# EAGLE library part M5-BGA256 (library amd-mach)
AMD MACH SERIES
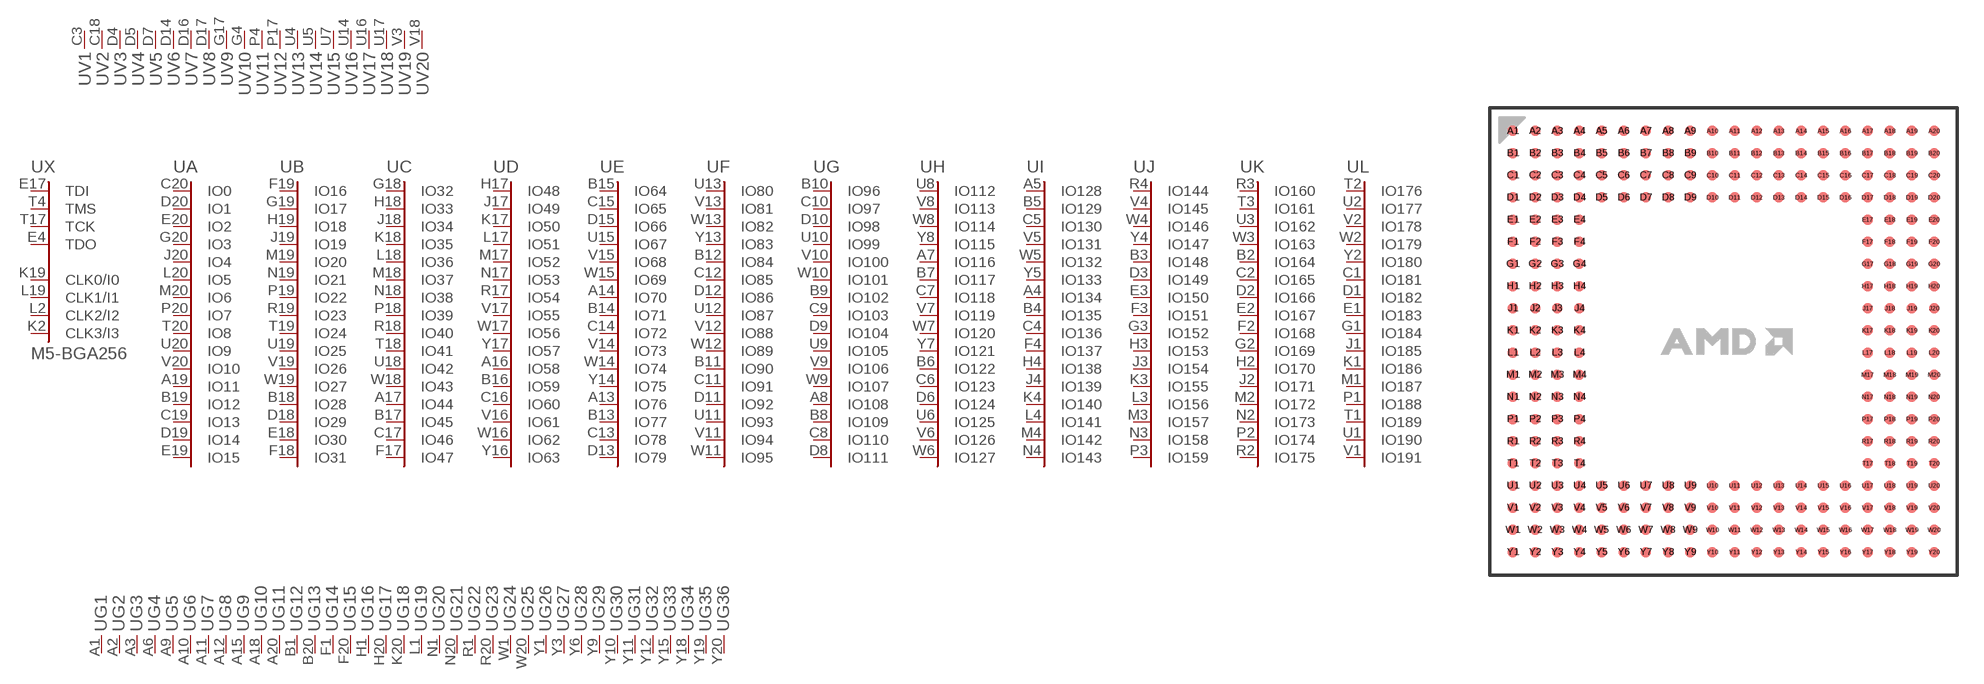
[diagram p17: symbol with the pads of BGA256S; footprint BGA256S]

Designator prefix U; gates X=M5-CTRL A=IO15 B=IO31 C=IO47 D=IO63 E=IO79 F=IO95 G=IO111 H=IO127 I=IO143 J=IO159 G1=GND G2=GND G3=GND G4=GND G5=GND G6=GND G7=GND G8=GND G9=GND G10=GND G11=GND G12=GND G13=GND G14=GND G15=GND G16=GND G17=GND G18=GND G19=GND G20=GND G21=GND G22=GND G23=GND G24=GND G25=GND G26=GND V1=VCC V2=VCC V3=VCC V4=VCC V5=VCC V6=VCC V7=VCC V8=VCC V9=VCC V10=VCC V11=VCC V12=VCC V13=VCC V14=VCC K=IO175 L=IO191 V15=VCC V16=VCC V17=VCC V18=VCC V19=VCC V20=VCC G27=GND G28=GND G29=GND G30=GND G31=GND G32=GND G33=GND G34=GND G35=GND G36=GND

## M5-BGA256  [BGA256S]
A1  G1:GND  pwr
A2  G2:GND  pwr
A3  G3:GND  pwr
A4  I:IO134
A5  I:IO128
A6  G4:GND  pwr
A7  H:IO116
A8  G:IO108
A9  G5:GND  pwr
A10  G6:GND  pwr
A11  G7:GND  pwr
A12  G8:GND  pwr
A13  E:IO76
A14  E:IO70
A15  G9:GND  pwr
A16  D:IO58
A17  C:IO44
A18  G10:GND  pwr
A19  A:IO11
A20  G11:GND  pwr
B1  G12:GND  pwr
B2  K:IO164
B3  J:IO148
B4  I:IO135
B5  I:IO129
B6  H:IO122
B7  H:IO117
B8  G:IO109
B9  G:IO102
B10  G:IO96
B11  F:IO90
B12  F:IO84
B13  E:IO77
B14  E:IO71
B15  E:IO64
B16  D:IO59
B17  C:IO45
B18  B:IO28
B19  A:IO12
B20  G13:GND  pwr
C1  L:IO181
C2  K:IO165
C3  V1:VCC  pwr
C4  I:IO136
C5  I:IO130
C6  H:IO123
C7  H:IO118
C8  G:IO110
C9  G:IO103
C10  G:IO97
C11  F:IO91
C12  F:IO85
C13  E:IO78
C14  E:IO72
C15  E:IO65
C16  D:IO60
C17  C:IO46
C18  V2:VCC  pwr
C19  A:IO13
C20  A:IO0
D1  L:IO182
D2  K:IO166
D3  J:IO149
D4  V3:VCC  pwr
D5  V4:VCC  pwr
D6  H:IO124
D7  V5:VCC  pwr
D8  G:IO111
D9  G:IO104
D10  G:IO98
D11  F:IO92
D12  F:IO86
D13  E:IO79
D14  V6:VCC  pwr
D15  E:IO66
D16  V7:VCC  pwr
D17  V8:VCC  pwr
D18  B:IO29
D19  A:IO14
D20  A:IO1
E1  L:IO183
E2  K:IO167
E3  J:IO150
E4  X:TDO  in
E17  X:TDI  in
E18  B:IO30
E19  A:IO15
E20  A:IO2
F1  G14:GND  pwr
F2  K:IO168
F3  J:IO151
F4  I:IO137
F17  C:IO47
F18  B:IO31
F19  B:IO16
F20  G15:GND  pwr
G1  L:IO184
G2  K:IO169
G3  J:IO152
G4  V10:VCC  pwr
G17  V9:VCC  pwr
G18  C:IO32
G19  B:IO17
G20  A:IO3
H1  G16:GND  pwr
H2  K:IO170
H3  J:IO153
H4  I:IO138
H17  D:IO48
H18  C:IO33
H19  B:IO18
H20  G17:GND  pwr
J1  L:IO185
J2  K:IO171
J3  J:IO154
J4  I:IO139
J17  D:IO49
J18  C:IO34
J19  B:IO19
J20  A:IO4
K1  L:IO186
K2  X:CLK3/I3  in
K3  J:IO155
K4  I:IO140
K17  D:IO50
K18  C:IO35
K19  X:CLK0/I0  in
K20  G18:GND  pwr
L1  G19:GND  pwr
L2  X:CLK2/I2  in
L3  J:IO156
L4  I:IO141
L17  D:IO51
L18  C:IO36
L19  X:CLK1/I1  in
L20  A:IO5
M1  L:IO187
M2  K:IO172
M3  J:IO157
M4  I:IO142
M17  D:IO52
M18  C:IO37
M19  B:IO20
M20  A:IO6
N1  G20:GND  pwr
N2  K:IO173
N3  J:IO158
N4  I:IO143
N17  D:IO53
N18  C:IO38
N19  B:IO21
N20  G21:GND  pwr
P1  L:IO188
P2  K:IO174
P3  J:IO159
P4  V11:VCC  pwr
P17  V12:VCC  pwr
P18  C:IO39
P19  B:IO22
P20  A:IO7
R1  G22:GND  pwr
R2  K:IO175
R3  K:IO160
R4  J:IO144
R17  D:IO54
R18  C:IO40
R19  B:IO23
R20  G23:GND  pwr
T1  L:IO189
T2  L:IO176
T3  K:IO161
T4  X:TMS  in
T17  X:TCK  in
T18  C:IO41
T19  B:IO24
T20  A:IO8
U1  L:IO190
U2  L:IO177
U3  K:IO162
U4  V13:VCC  pwr
U5  V14:VCC  pwr
U6  H:IO125
U7  V15:VCC  pwr
U8  H:IO112
U9  G:IO105
U10  G:IO99
U11  F:IO93
U12  F:IO87
U13  F:IO80
U14  V16:VCC  pwr
U15  E:IO67
U16  V17:VCC  pwr
U17  V18:VCC  pwr
U18  C:IO42
U19  B:IO25
U20  A:IO9
V1  L:IO191
V2  L:IO178
V3  V19:VCC  pwr
V4  J:IO145
V5  I:IO131
V6  H:IO126
V7  H:IO119
V8  H:IO113
V9  G:IO106
V10  G:IO100
V11  F:IO94
V12  F:IO88
V13  F:IO81
V14  E:IO73
V15  E:IO68
V16  D:IO61
V17  D:IO55
V18  V20:VCC  pwr
V19  B:IO26
V20  A:IO10
W1  G24:GND  pwr
W2  L:IO179
W3  K:IO163
W4  J:IO146
W5  I:IO132
W6  H:IO127
W7  H:IO120
W8  H:IO114
W9  G:IO107
W10  G:IO101
W11  F:IO95
W12  F:IO89
W13  F:IO82
W14  E:IO74
W15  E:IO69
W16  D:IO62
W17  D:IO56
W18  C:IO43
W19  B:IO27
W20  G25:GND  pwr
Y1  G26:GND  pwr
Y2  L:IO180
Y3  G27:GND  pwr
Y4  J:IO147
Y5  I:IO133
Y6  G28:GND  pwr
Y7  H:IO121
Y8  H:IO115
Y9  G29:GND  pwr
Y10  G30:GND  pwr
Y11  G31:GND  pwr
Y12  G32:GND  pwr
Y13  F:IO83
Y14  E:IO75
Y15  G33:GND  pwr
Y16  D:IO63
Y17  D:IO57
Y18  G34:GND  pwr
Y19  G35:GND  pwr
Y20  G36:GND  pwr

## Footprint BGA256S (pad centres in mm)
Ball Grid Array square
smd 0.6 x 0.6: A1 -12.065,12.065; A2 -10.795,12.065; A3 -9.525,12.065; A4 -8.255,12.065; A5 -6.985,12.065; A6 -5.715,12.065; A7 -4.445,12.065; A8 -3.175,12.065; A9 -1.905,12.065; A10 -0.635,12.065; A11 0.635,12.065; A12 1.905,12.065; A13 3.175,12.065; A14 4.445,12.065; A15 5.715,12.065; A16 6.985,12.065; A17 8.255,12.065; A18 9.525,12.065; A19 10.795,12.065; A20 12.065,12.065; B1 -12.065,10.795; B2 -10.795,10.795; B3 -9.525,10.795; B4 -8.255,10.795; B5 -6.985,10.795; B6 -5.715,10.795; B7 -4.445,10.795; B8 -3.175,10.795; B9 -1.905,10.795; B10 -0.635,10.795; B11 0.635,10.795; B12 1.905,10.795; B13 3.175,10.795; B14 4.445,10.795; B15 5.715,10.795; B16 6.985,10.795; B17 8.255,10.795; B18 9.525,10.795; B19 10.795,10.795; B20 12.065,10.795; C1 -12.065,9.525; C2 -10.795,9.525; C3 -9.525,9.525; C4 -8.255,9.525; C5 -6.985,9.525; C6 -5.715,9.525; C7 -4.445,9.525; C8 -3.175,9.525; C9 -1.905,9.525; C10 -0.635,9.525; C11 0.635,9.525; C12 1.905,9.525; C13 3.175,9.525; C14 4.445,9.525; C15 5.715,9.525; C16 6.985,9.525; C17 8.255,9.525; C18 9.525,9.525; C19 10.795,9.525; C20 12.065,9.525; D1 -12.065,8.255; D2 -10.795,8.255; D3 -9.525,8.255; D4 -8.255,8.255; D5 -6.985,8.255; D6 -5.715,8.255; D7 -4.445,8.255; D8 -3.175,8.255; D9 -1.905,8.255; D10 -0.635,8.255; D11 0.635,8.255; D12 1.905,8.255; D13 3.175,8.255; D14 4.445,8.255; D15 5.715,8.255; D16 6.985,8.255; D17 8.255,8.255; D18 9.525,8.255; D19 10.795,8.255; D20 12.065,8.255; E1 -12.065,6.985; E2 -10.795,6.985; E3 -9.525,6.985; E4 -8.255,6.985; E17 8.255,6.985; E18 9.525,6.985; E19 10.795,6.985; E20 12.065,6.985; F1 -12.065,5.715; F2 -10.795,5.715; F3 -9.525,5.715; F4 -8.255,5.715; F17 8.255,5.715; F18 9.525,5.715; F19 10.795,5.715; F20 12.065,5.715; G1 -12.065,4.445; G2 -10.795,4.445; G3 -9.525,4.445; G4 -8.255,4.445; G17 8.255,4.445; G18 9.525,4.445; G19 10.795,4.445; G20 12.065,4.445; H1 -12.065,3.175; H2 -10.795,3.175; H3 -9.525,3.175; H4 -8.255,3.175; H17 8.255,3.175; H18 9.525,3.175; H19 10.795,3.175; H20 12.065,3.175; J1 -12.065,1.905; J2 -10.795,1.905; J3 -9.525,1.905; J4 -8.255,1.905; J17 8.255,1.905; J18 9.525,1.905; J19 10.795,1.905; J20 12.065,1.905; K1 -12.065,0.635; K2 -10.795,0.635; K3 -9.525,0.635; K4 -8.255,0.635; K17 8.255,0.635; K18 9.525,0.635; K19 10.795,0.635; K20 12.065,0.635; L1 -12.065,-0.635; L2 -10.795,-0.635; L3 -9.525,-0.635; L4 -8.255,-0.635; L17 8.255,-0.635; L18 9.525,-0.635; L19 10.795,-0.635; L20 12.065,-0.635; M1 -12.065,-1.905; M2 -10.795,-1.905; M3 -9.525,-1.905; M4 -8.255,-1.905; M17 8.255,-1.905; M18 9.525,-1.905; M19 10.795,-1.905; M20 12.065,-1.905; N1 -12.065,-3.175; N2 -10.795,-3.175; N3 -9.525,-3.175; N4 -8.255,-3.175; N17 8.255,-3.175; N18 9.525,-3.175; N19 10.795,-3.175; N20 12.065,-3.175; P1 -12.065,-4.445; P2 -10.795,-4.445; P3 -9.525,-4.445; P4 -8.255,-4.445; P17 8.255,-4.445; P18 9.525,-4.445; P19 10.795,-4.445; P20 12.065,-4.445; R1 -12.065,-5.715; R2 -10.795,-5.715; R3 -9.525,-5.715; R4 -8.255,-5.715; R17 8.255,-5.715; R18 9.525,-5.715; R19 10.795,-5.715; R20 12.065,-5.715; T1 -12.065,-6.985; T2 -10.795,-6.985; T3 -9.525,-6.985; T4 -8.255,-6.985; T17 8.255,-6.985; T18 9.525,-6.985; T19 10.795,-6.985; T20 12.065,-6.985; U1 -12.065,-8.255; U2 -10.795,-8.255; U3 -9.525,-8.255; U4 -8.255,-8.255; U5 -6.985,-8.255; U6 -5.715,-8.255; U7 -4.445,-8.255; U8 -3.175,-8.255; U9 -1.905,-8.255; U10 -0.635,-8.255; U11 0.635,-8.255; U12 1.905,-8.255; U13 3.175,-8.255; U14 4.445,-8.255; U15 5.715,-8.255; U16 6.985,-8.255; U17 8.255,-8.255; U18 9.525,-8.255; U19 10.795,-8.255; U20 12.065,-8.255; V1 -12.065,-9.525; V2 -10.795,-9.525; V3 -9.525,-9.525; V4 -8.255,-9.525; V5 -6.985,-9.525; V6 -5.715,-9.525; V7 -4.445,-9.525; V8 -3.175,-9.525; V9 -1.905,-9.525; V10 -0.635,-9.525; V11 0.635,-9.525; V12 1.905,-9.525; V13 3.175,-9.525; V14 4.445,-9.525; V15 5.715,-9.525; V16 6.985,-9.525; V17 8.255,-9.525; V18 9.525,-9.525; V19 10.795,-9.525; V20 12.065,-9.525; W1 -12.065,-10.795; W2 -10.795,-10.795; W3 -9.525,-10.795; W4 -8.255,-10.795; W5 -6.985,-10.795; W6 -5.715,-10.795; W7 -4.445,-10.795; W8 -3.175,-10.795; W9 -1.905,-10.795; W10 -0.635,-10.795; W11 0.635,-10.795; W12 1.905,-10.795; W13 3.175,-10.795; W14 4.445,-10.795; W15 5.715,-10.795; W16 6.985,-10.795; W17 8.255,-10.795; W18 9.525,-10.795; W19 10.795,-10.795; W20 12.065,-10.795; Y1 -12.065,-12.065; Y2 -10.795,-12.065; Y3 -9.525,-12.065; Y4 -8.255,-12.065; Y5 -6.985,-12.065; Y6 -5.715,-12.065; Y7 -4.445,-12.065; Y8 -3.175,-12.065; Y9 -1.905,-12.065; Y10 -0.635,-12.065; Y11 0.635,-12.065; Y12 1.905,-12.065; Y13 3.175,-12.065; Y14 4.445,-12.065; Y15 5.715,-12.065; Y16 6.985,-12.065; Y17 8.255,-12.065; Y18 9.525,-12.065; Y19 10.795,-12.065; Y20 12.065,-12.065